# EAGLE library part PCA84CX41/84CX44 (library Philips-semiconductors2)
The 84C44X; 84C64X; 84C84X denotes the types: · PCA84C440; 84C441; 84C443; 84C444 · PCA84C640; 84C641; 84C643; 84C644 · PCA84C840; 84C841; 84C843; 84C844. which are 8-bit microcontrollers with On Screen Display (OSD) and Voltage Synthesized Tuning (VST) functions. All are members of the 84CXXX microcontroller family. There are two oscillator types for the OSD function in the various types, i.e., · RC oscillator: PCA84C440; 84C443; 84C640; 84C643; 84C840; 84C843 · LC oscillator: PCA84C441; 84C444; 84C641; 84C644; 84C841; 84C844.
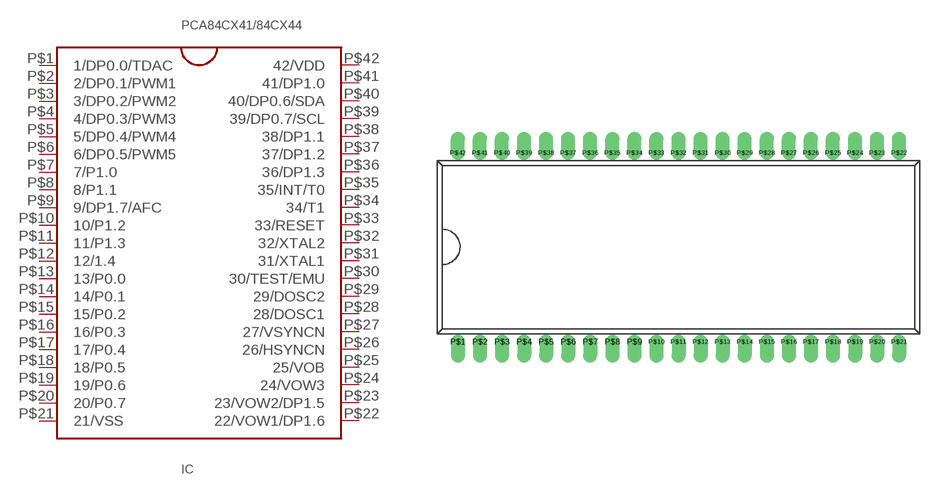
[diagram p68: symbol with the pads of SOT270-1; footprint SOT270-1]

Designator prefix IC

## PCA84CX41/84CX44  [SOT270-1]
P$1  1/DP0.0/TDAC
P$2  2/DP0.1/PWM1
P$3  3/DP0.2/PWM2
P$4  4/DP0.3/PWM3
P$5  5/DP0.4/PWM4
P$6  6/DP0.5/PWM5
P$7  7/P1.0
P$8  8/P1.1
P$9  9/DP1.7/AFC
P$10  10/P1.2
P$11  11/P1.3
P$12  12/1.4
P$13  13/P0.0
P$14  14/P0.1
P$15  15/P0.2
P$16  16/P0.3
P$17  17/P0.4
P$18  18/P0.5
P$19  19/P0.6
P$20  20/P0.7
P$21  21/VSS  pwr
P$22  22/VOW1/DP1.6
P$23  23/VOW2/DP1.5
P$24  24/VOW3
P$25  25/VOB
P$26  26/HSYNCN
P$27  27/VSYNCN
P$28  28/DOSC1
P$29  29/DOSC2
P$30  30/TEST/EMU
P$31  31/XTAL1
P$32  32/XTAL2
P$33  33/RESET
P$34  34/T1
P$35  35/INT/T0
P$36  36/DP1.3
P$37  37/DP1.2
P$38  38/DP1.1
P$39  39/DP0.7/SCL
P$40  40/DP0.6/SDA
P$41  41/DP1.0
P$42  42/VDD  pwr

## Footprint SOT270-1 (pad centres in mm)
drill 0.6 offset: P$1 -17.78,-7.62; P$2 -16.002,-7.62; P$3 -14.224,-7.62; P$4 -12.446,-7.62; P$5 -10.668,-7.62; P$6 -8.89,-7.62; P$7 -7.112,-7.62; P$8 -5.334,-7.62; P$9 -3.556,-7.62; P$10 -1.778,-7.62; P$11 0,-7.62; P$12 1.778,-7.62; P$13 3.556,-7.62; P$14 5.336,-7.62; P$15 7.114,-7.62; P$16 8.892,-7.62; P$17 10.67,-7.62; P$18 12.448,-7.62; P$19 14.224,-7.62; P$20 16.004,-7.62; P$21 17.78,-7.62; P$22 17.78,7.62; P$23 16.004,7.62; P$24 14.224,7.62; P$25 12.448,7.62; P$26 10.67,7.62; P$27 8.89,7.62; P$28 7.114,7.62; P$29 5.336,7.62; P$30 3.556,7.62; P$31 1.78,7.62; P$32 0,7.62; P$33 -1.778,7.62; P$34 -3.556,7.62; P$35 -5.334,7.62; P$36 -7.112,7.62; P$37 -8.89,7.618; P$38 -10.668,7.62; P$39 -12.446,7.62; P$40 -14.224,7.618; P$41 -16.002,7.62; P$42 -17.78,7.62